# Altium schematic symbol library LM555.SchLib: 1 symbol
Pins are listed as number, name and electrical type; pins without a type are passive.

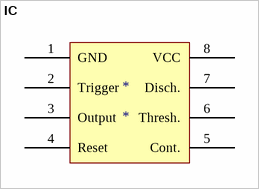
[diagram p0: symbol IC]

## IC
designator *
LM555 Timer
footprint SOIC127P600X175-8N (SOIC, 8-Leads, Body 4.90x3.90mm, Pitch 1.27mm, IPC Medium Density)
pins: 1 GND, 2 Trigger, 3 Output, 4 Reset, 5 Cont., 6 Thresh., 7 Disch., 8 VCC